# EAGLE library part MAX77659AENV+ (library MAX77659AENV+)
Power Management Specialized - PMIC Single Ind PMIC for a switching mode charger & 3 buck-boost outputs Source: Datasheet <https://www.mouser.cn/datasheet/2/256/MAX77659-2529092.pdf>
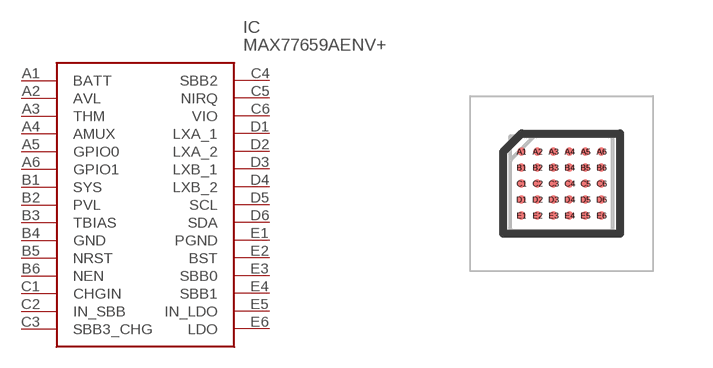
[diagram p0: symbol with the pads of BGA30C40P6X5_255X237X50; footprint BGA30C40P6X5_255X237X50]

Designator prefix IC

## MAX77659AENV+ (Description: Power Management Specialized - PMIC Single Ind PMIC for a switching mode charger & 3 buck-boost outputs; Height: 0.5mm; Manufacturer_Name: Analog Devices; Manufacturer_Part_Number: MAX77659AENV+; Mouser_Part_Number: 700-MAX77659AENV+; Mouser_Price-Stock: https://www.mouser.co.uk/ProductDetail/Maxim-Integrated/MAX77659AENV%2b?qs=Wj%2FVkw3K%252BMDJpM07aXge7g%3D%3D)  [BGA30C40P6X5_255X237X50]
A1  BATT
A2  AVL
A3  THM
A4  AMUX
A5  GPIO0
A6  GPIO1
B1  SYS
B2  PVL
B3  TBIAS
B4  GND
B5  NRST
B6  NEN
C1  CHGIN
C2  IN_SBB
C3  SBB3_CHG
C4  SBB2
C5  NIRQ
C6  VIO
D1  LXA_1
D2  LXA_2
D3  LXB_1
D4  LXB_2
D5  SCL
D6  SDA
E1  PGND
E2  BST
E3  SBB0
E4  SBB1
E5  IN_LDO
E6  LDO

## Footprint BGA30C40P6X5_255X237X50 (pad centres in mm)
MAX77659AENV+/
smd 0.216 x 0.216: A1 -1,0.8; A2 -0.6,0.8; A3 -0.2,0.8; A4 0.2,0.8; A5 0.6,0.8; A6 1,0.8; B1 -1,0.4; B2 -0.6,0.4; B3 -0.2,0.4; B4 0.2,0.4; B5 0.6,0.4; B6 1,0.4; C1 -1,0; C2 -0.6,0; C3 -0.2,0; C4 0.2,0; C5 0.6,0; C6 1,0; D1 -1,-0.4; D2 -0.6,-0.4; D3 -0.2,-0.4; D4 0.2,-0.4; D5 0.6,-0.4; D6 1,-0.4; E1 -1,-0.8; E2 -0.6,-0.8; E3 -0.2,-0.8; E4 0.2,-0.8; E5 0.6,-0.8; E6 1,-0.8